# Altium schematic symbol library ALTAIR_PD_BJTs.SchLib: 1 symbol
Pins are listed as number, name and electrical type; pins without a type are passive.

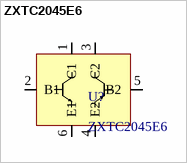
[diagram p0: symbol ZXTC2045E6]

## ZXTC2045E6
designator U?
BJT Array, 1NPN 1PNP, VCE(sat) 375mV, hFE 300, Breakdown 30V, 6-SOT-23
pins: 1 C1, 2 B1, 3 C2, 4 E2, 5 B2, 6 E1